# EAGLE library part LT1172 (library QuantumOptics)
LT1172, Linear Tech switching converter, buck/boost, int switch, SO-8 (LT1172) and others. See also LT1170-1 for other packages and currents. http://www.linear.com/pc/downloadDocument.do?navId=H0,C1,C1003,C1042,C1031,P1316,D1814
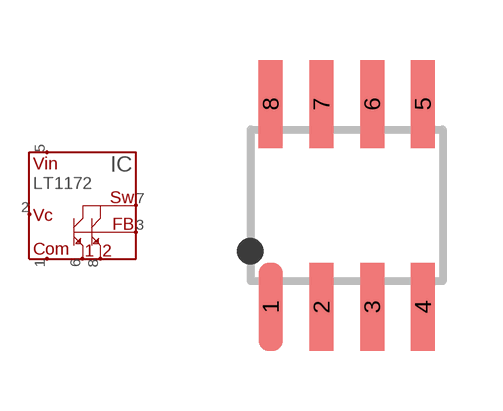
[diagram p69: symbol with the pads of SOIC-8; footprint SOIC-8]

Designator prefix IC

## LT1172  [SOIC-8]
1  COM
2  VC
3  FB
5  VIN
6  E1
7  SW
8  E2

## Footprint SOIC-8 (pad centres in mm)
SOIC-8 (a.k.a. SO-8), pads on 0.050" x 0.200" c-c spacing.
smd 0.6 x 2.2: 1 -1.27,-2.54; 2 0,-2.54; 3 1.27,-2.54; 4 2.54,-2.54; 5 2.54,2.54; 6 1.27,2.54; 7 0,2.54; 8 -1.27,2.54